# Altium schematic symbol library L0805.Schlib: 1 symbol
Pins are listed as number, name and electrical type; pins without a type are passive.

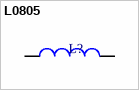
[diagram p0: symbol L0805]

## L0805
designator L?  (value not drawn)
0805 Chip Inductor - Standard
pins: 1, 2